# Altium schematic symbol library Weather_Schlib.SchLib: 36 symbols
Pins are listed as number, name and electrical type; pins without a type are passive.

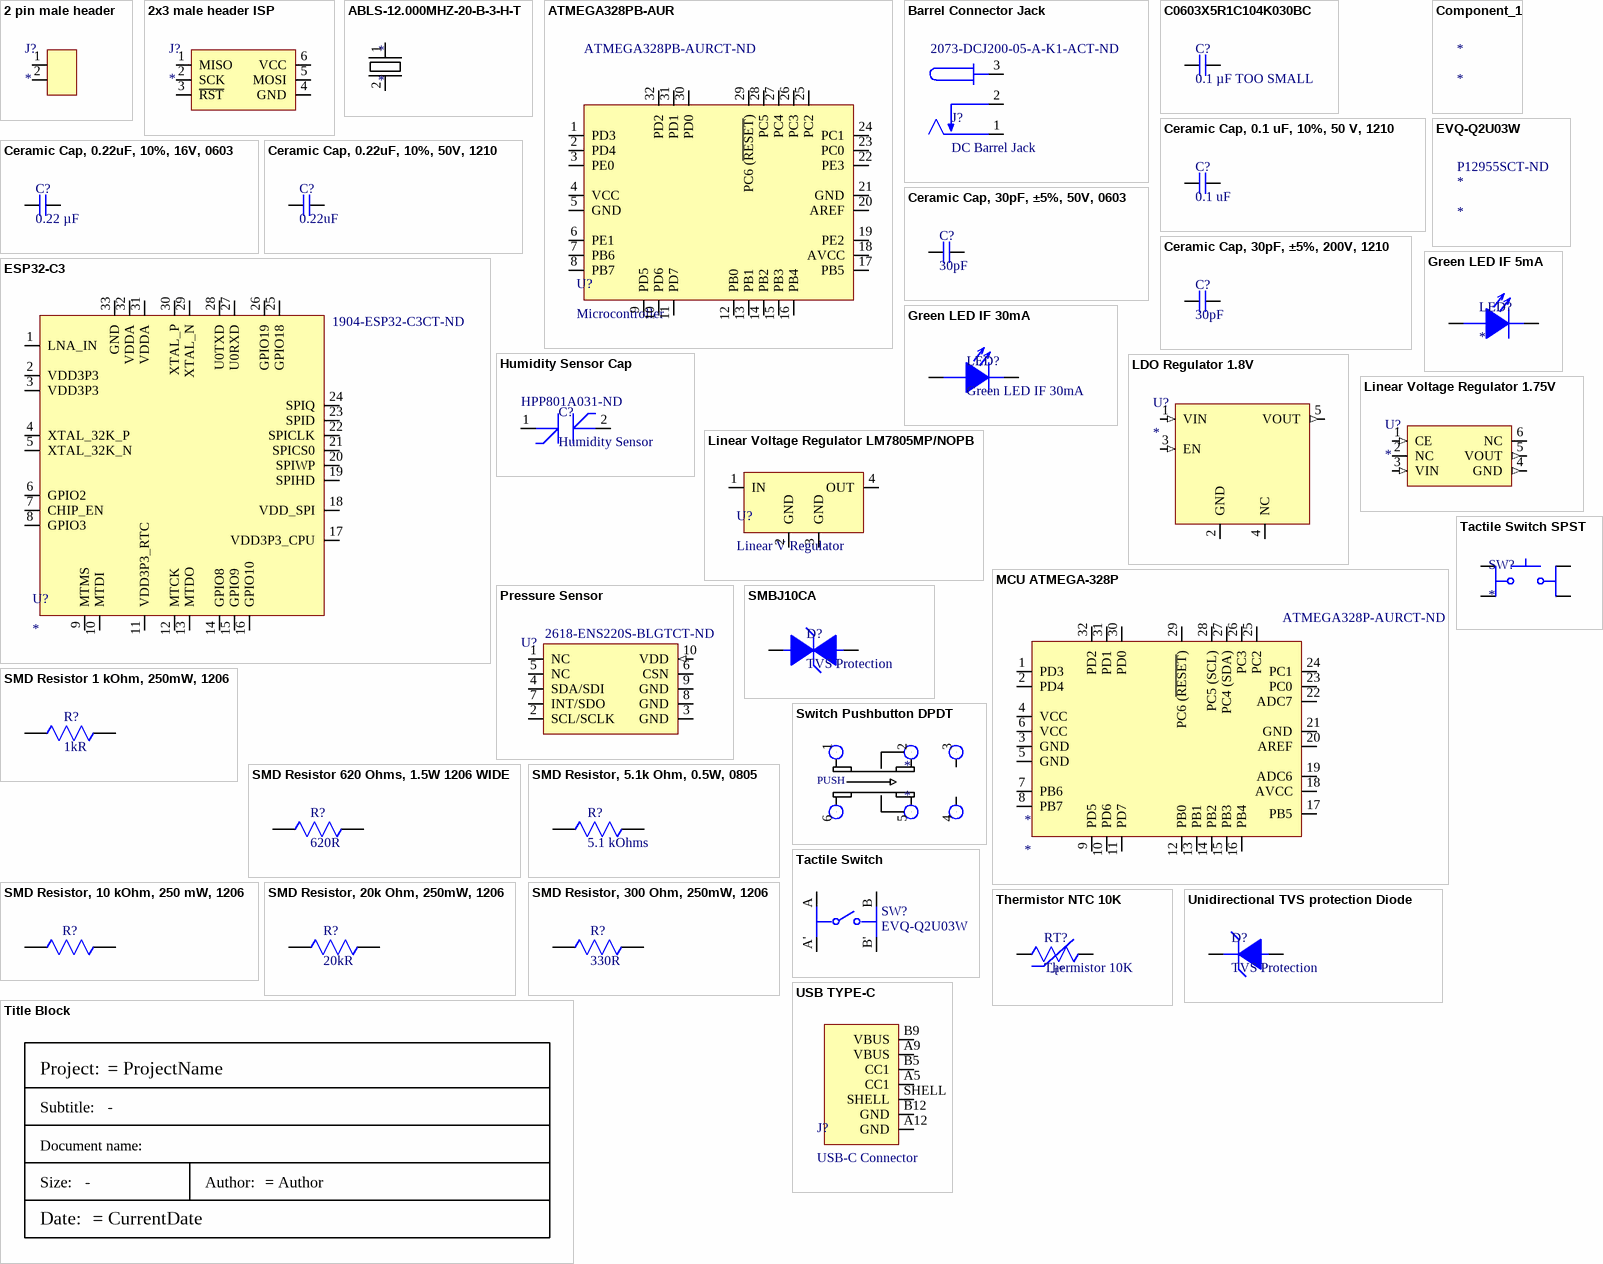
[diagram p0: symbols 2 pin male header to USB TYPE-C]

## 2 pin male header
designator J?
Conn Unshrouded Header HDR 2 POS 2.54mm Solder ST SMD Automotive T/R; Manufacturer: Samtec; Manufacturer Part Number: TSM-102-01-T-SV-TR; Supplier 1: Digikey; RoHS: Yes; Category: Headers and Wire Housings; Stock 1: 4232; Pricing 1: 1=0,22 (USD); ComponentLink1URL: http://www.farnell.com/datasheets/1927672.pdf?src-supplier=Farnell; ComponentLink1Description: http://www.farnell.com/datasheets/1927672.pdf?src-supplier=Farnell; ComponentLink2URL: https://datasheet.octopart.com/TSM-102-01-T-SV-TR-Samtec-datasheet-41643181.pdf?src-supplier=Newark; ComponentLink2Description: https://datasheet.octopart.com/TSM-102-01-T-SV-TR-Samtec-datasheet-41643181.pdf?src-supplier=Newark; ComponentLink3URL: http://suddendocs.samtec.com/catalog_english/tsm.pdf?src-supplier=Digikey; ComponentLink3Description: http://suddendocs.samtec.com/catalog_english/tsm.pdf?src-supplier=Digikey; ComponentLink4URL: http://www.samtec.com/documents/webfiles/pdf/TSM.PDF?src-supplier=Avnet; ComponentLink4Description: http://www.samtec.com/documents/webfiles/pdf/TSM.PDF?src-supplier=Avnet; ComponentLink5URL: https://datasheet.octopart.com/TSM-102-01-T-SV-TR-Samtec-datasheet-97319594.pdf?src-supplier=Sager+Electronics; ComponentLink5Description: https://datasheet.octopart.com/TSM-102-01-T-SV-TR-Samtec-datasheet-97319594.pdf?src-supplier=Sager+Electronics; ComponentLink6URL: https://datasheet.octopart.com/TSM-102-01-T-SV-TR-Samtec-datasheet-116533474.pdf?src-supplier=Toby+Electronics; ComponentLink6Description: https://datasheet.octopart.com/TSM-102-01-T-SV-TR-Samtec-datasheet-116533474.pdf?src-supplier=Toby+Electronics; ComponentLink7URL: https://datasheet.octopart.com/TSM-102-01-T-SV-TR-Samtec-datasheet-141160580.pdf?src-supplier=Master+Electronics; ComponentLink7Description: https://datasheet.octopart.com/TSM-102-01-T-SV-TR-Samtec-datasheet-141160580.pdf?src-supplier=Master+Electronics; Supplier Part Number 1: SAM14779DKR-ND
footprint 2 pin male header smd (SAMTEC_TSM-102-01-X-SV)
pins: 1, 2

## 2x3 male header ISP
designator J?
Bs Dr Vt SMT Hdr 2X3 TR-10125394-T0803ALF | Amphenol Fci (amphenol Cs) 10125394T0803ALF; Manufacturer: Amphenol Communications Solutions; Supplier 1: Digikey; Manufacturer Part Number: 10125394-T0803ALF; RoHS: No; Category: Backplane Connectors; Stock 1: 2253; Pricing 1: 1=0,66, 10=0,5 (USD)
footprint 2x3 male header ISP (AMPHENOL_10125394-T0803ALF)
pins: 1 MISO, 2 SCK, 3 ~{RST}, 4 GND, 5 MOSI, 6 VCC

## ABLS-12.000MHZ-20-B-3-H-T
designator *
Crystal 12MHz ±25ppm (Tol) ±35ppm (Stability) 20pF FUND 50Ohm 2-Pin HC-49/US SMD T/R; Manufacturer: Abracon; Manufacturer Part Number: ABLS-12.000MHZ-20-B-3-H-T; Supplier 1: Digikey; RoHS: Yes; Category: Crystals; Stock 1: 9001; Pricing 1: 1=0,19, 10=0,16, 50=0,1444, 100=0,1381, 500=0,12446 (USD); ComponentLink1URL: https://abracon.com/Resonators/abls.pdf?src-supplier=Digikey; ComponentLink1Description: https://abracon.com/Resonators/abls.pdf?src-supplier=Digikey; ComponentLink2URL: https://datasheet.octopart.com/ABLS-12.000MHZ-20-B-3-H-T-Abracon-datasheet-139816269.pdf?src-supplier=Electro+Sonic; ComponentLink2Description: https://datasheet.octopart.com/ABLS-12.000MHZ-20-B-3-H-T-Abracon-datasheet-139816269.pdf?src-supplier=Electro+Sonic; Supplier Part Number 1: 535-15006-1-ND
footprint ABLS-12.000MHZ-20-B-3-H-T
pins: 1, 2

## ATMEGA328PB-AUR
designator U?, comment Microcontroller  Supplier Part Number 1: ATMEGA328PB-AURCT-ND
AVR AVR® ATmega, Functional Safety (FuSa) Microcontroller IC 8-Bit 20MHz 32KB (16K x 16) FLASH 32-TQFP (7x7); Manufacturer: Microchip; Manufacturer Part Number: ATMEGA328PB-AUR; Number of A/D Converters: 1NUMBER; Number of ADC Channels: 8NUMBER; Number of I2C Channels: 2NUMBER; Number of PWM Channels: 10NUMBER; Supplier 1: Digikey; RoHS: No; Category: Microcontrollers; Stock 1: 14345; Pricing 1: 1=1,7, 25=1,56, 100=1,41 (USD); Number of SPI Channels: 2NUMBER; Number of UART Channels: 2NUMBER; Height: 1.2mm; ComponentLink1URL: http://www.atmel.com/images/atmel-42397-8-bit-avr-microcontroller-atmega328pb_summary.pdf?src-supplier=Avnet; ComponentLink1Description: http://www.atmel.com/images/atmel-42397-8-bit-avr-microcontroller-atmega328pb_summary.pdf?src-supplier=Avnet; ComponentLink2URL: http://www.microchip.com/mymicrochip/filehandler.aspx?ddocname=en589666&src-supplier=Digikey; ComponentLink2Description: http://www.microchip.com/mymicrochip/filehandler.aspx?ddocname=en589666&src-supplier=Digikey; ComponentLink3URL: https://datasheet.octopart.com/ATMEGA328PB-AUR-Microchip-datasheet-154741725.pdf?src-supplier=Electro+Sonic; ComponentLink3Description: https://datasheet.octopart.com/ATMEGA328PB-AUR-Microchip-datasheet-154741725.pdf?src-supplier=Electro+Sonic; ComponentLink4URL: https://datasheet.octopart.com/ATMEGA328PB-AUR-Microchip-datasheet-136376163.pdf?src-supplier=SHENGYU+ELECTRONICS; ComponentLink4Description: https://datasheet.octopart.com/ATMEGA328PB-AUR-Microchip-datasheet-136376163.pdf?src-supplier=SHENGYU+ELECTRONICS
pins: 1 PD3 (power), 2 PD4 (power), 3 PE0, 4 VCC, 5 GND, 6 PE1, 7 PB6, 8 PB7, 9 PD5, 10 PD6, 11 PD7, 12 PB0, 13 PB1, 14 PB2, 15 PB3, 16 PB4, 17 PB5, 18 AVCC, 19 PE2, 20 AREF, 21 GND, 22 PE3, 23 PC0, 24 PC1, 25 PC2, 26 PC3, 27 PC4, 28 PC5, 29 PC6 (~{RESET}), 30 PD0, 31 PD1 (power), 32 PD2 (power)

## Barrel Connector Jack
designator J?, comment DC Barrel Jack  Supplier Part Number 1: 2073-DCJ200-05-A-K1-ACT-ND
Power Barrel Connector Jack 2.05mm ID (0.081"), 5.50mm OD (0.217") Surface Mount, Right Angle; Manufacturer: Global Connector Technology; Manufacturer Part Number: DCJ200-05-A-K1-A; Supplier 1: Digikey; RoHS: Yes; Category: Connectors; Stock 1: 1981; Pricing 1: 1=1,02, 10=0,859, 25=0,8236, 50=0,806, 100=0,771 (USD); ComponentLink1URL: https://datasheet.octopart.com/DCJ200-05-A-K1-A-Global-Connector-Technology-datasheet-77992270.pdf?src-supplier=Future+Electronics; ComponentLink1Description: https://datasheet.octopart.com/DCJ200-05-A-K1-A-Global-Connector-Technology-datasheet-77992270.pdf?src-supplier=Future+Electronics; ComponentLink2URL: https://gct.co/files/drawings/dcj200-05.pdf?src-supplier=Digikey; ComponentLink2Description: https://gct.co/files/drawings/dcj200-05.pdf?src-supplier=Digikey; ComponentLink3URL: https://datasheet.octopart.com/DCJ200-05-A-K1-A-Global-Connector-Technology-datasheet-91940685.pdf?src-supplier=Farnell; ComponentLink3Description: https://datasheet.octopart.com/DCJ200-05-A-K1-A-Global-Connector-Technology-datasheet-91940685.pdf?src-supplier=Farnell; ComponentLink4URL: http://www.farnell.com/cad/1884037.pdf?src-supplier=Element14; ComponentLink4Description: http://www.farnell.com/cad/1884037.pdf?src-supplier=Element14
footprint Power Barrel Jack (GCT_DCJ200-05-A-XX-X_REVA)
pins: 1 GND, 2 SPRING (GND), 3 CENTER (V+) (power)

## C0603X5R1C104K030BC
designator С?, comment 0.1 µF TOO SMALL
TOO SMALL 0.1 µF ±10% 16V Ceramic Capacitor X5R 0201 (0603 Metric); Manufacturer: TDK; Manufacturer Part Number: C0603X5R1C104K030BC; Capacitance: 100nF; Supplier 1: Digikey; RoHS: Yes; Category: Ceramic Capacitors; Stock 1: 3242475; Pricing 1: 1=0,1, 10=0,044, 50=0,0252, 100=0,0195, 500=0,01468, 1000=0,01153, 2500=0,01048, 5000=0,00964 (USD); Mount: Surface Mount; Case/Package: 0201; Case Code (Metric): 0603; Case Code (Imperial): 0201; Weight: 6E-06oz; Dielectric Material: Ceramic; Material: 4241ConductorMaterial; Min Operating Temperature: -55°C; Max Operating Temperature: 85°C; Voltage Rating: 16V; Tolerance: 10%; Packaging: Tape and Reel; Package Quantity: 15000; Dielectric: X5R; Voltage: 16V; Dissipation Factor: 10%; Termination: SMD/SMT; Voltage Rating (DC): 16V; Series: C; Construction: Flat; Length: 0.6mm; Width: 0.3mm; Height: 0.3mm; Depth: 0.3mm; RoHS Compliant: Yes; Reach SVHC Compliant: Unknown; Lead Free: 5697LeadFree; ComponentLink1URL: https://datasheet.ciiva.com/22725/1913358-22725406.pdf?src-supplier=Element14; ComponentLink1Description: https://datasheet.ciiva.com/22725/1913358-22725406.pdf?src-supplier=Element14; ComponentLink2URL: https://datasheet.ciiva.com/22725/1913358-22725407.pdf?src-supplier=Element14; ComponentLink2Description: https://datasheet.ciiva.com/22725/1913358-22725407.pdf?src-supplier=Element14; ComponentLink3URL: https://datasheet.ciiva.com/6250/tdkmlcccaprange-6250616.pdf?src-supplier=Digikey; ComponentLink3Description: https://datasheet.ciiva.com/6250/tdkmlcccaprange-6250616.pdf?src-supplier=Digikey; ComponentLink4URL: https://datasheet.ciiva.com/6250/tdkmlcccaprange-6250614.pdf?src-supplier=Digikey; ComponentLink4Description: https://datasheet.ciiva.com/6250/tdkmlcccaprange-6250614.pdf?src-supplier=Digikey; ComponentLink5URL: https://datasheet.ciiva.com/6250/tdkmlcccaprange-6250618.pdf?src-supplier=Digikey; ComponentLink5Description: https://datasheet.ciiva.com/6250/tdkmlcccaprange-6250618.pdf?src-supplier=Digikey; Supplier Part Number 1: 445-7313-1-ND
footprint C0603X5R1C104K030BC
pins: 1, 2

## Ceramic Cap, 0.1 uF, 10%, 50 V, 1210
designator C?, comment 0.1 uF
CerCapacitor, 0.1 uF, 10%, X7R, 50 V, 1210 [3225 Metric] Rohs Compliant: Yes |Walsin 1210B104K500CT; Manufacturer: Walsin Technologies; Capacitance: 100nF; Voltage Rating: 50V; Supplier 1: Digikey; Manufacturer Part Number: 1210B104K500CT; RoHS: Yes; Category: Ceramic Capacitors; Stock 1: 2921; Pricing 1: 1=0,23, 10=0,133, 50=0,0944, 100=0,0824, 500=0,06194, 1000=0,05558 (USD); Case/Package: Ceramic; Case Code (Metric): 3225; Case Code (Imperial): 1210; Min Operating Temperature: -55°C; Max Operating Temperature: 125°C; Packaging: Tape and Reel; Tolerance: 10%; Dielectric: X7R; Voltage Rating (DC): 50V; Length: 3.2mm; Depth: 2.5mm; Radiation Hardening: No; RoHS Compliant: Yes; Reach SVHC Compliant: Unknown; Lead Free: 5697LeadFree; ComponentLink1URL: https://datasheet.ciiva.com/26864/getdatasheetpartid-414729-26864951.pdf?src-supplier=Verical; ComponentLink1Description: https://datasheet.ciiva.com/26864/getdatasheetpartid-414729-26864951.pdf?src-supplier=Verical; Supplier Part Number 1: 1292-1618-6-ND
footprint 1210B104K500CT
pins: 1, 2

## Ceramic Cap, 0.22uF, 10%, 16V, 0603
designator C?, comment 0.22 µF
Too small 0.22 µF ±10% 16V Ceramic Capacitor X7R 0603 (1608 Metric); Manufacturer: Walsin Technologies; Manufacturer Part Number: 0603B224K160CT; Supplier 1: Digikey; RoHS: Yes; Category: Ceramic Capacitors; Stock 1: 104261; Pricing 1: 1=0,1, 10=0,034, 50=0,0192, 100=0,0149, 500=0,01124, 1000=0,00883 (USD); ComponentLink1URL: http://www.farnell.com/datasheets/2340522.pdf?src-supplier=Farnell; ComponentLink1Description: http://www.farnell.com/datasheets/2340522.pdf?src-supplier=Farnell; ComponentLink2URL: http://www.farnell.com/datasheets/2009679.pdf?src-supplier=Farnell; ComponentLink2Description: http://www.farnell.com/datasheets/2009679.pdf?src-supplier=Farnell; ComponentLink3URL: https://www.verical.com/server-webapp/html/getDatasheet?partID=415742&src-supplier=Verical; ComponentLink3Description: https://www.verical.com/server-webapp/html/getDatasheet?partID=415742&src-supplier=Verical; ComponentLink4URL: http://www.passivecomponent.com/wp-content/uploads/2018/10/MLCC.pdf?src-supplier=Digikey; ComponentLink4Description: http://www.passivecomponent.com/wp-content/uploads/2018/10/MLCC.pdf?src-supplier=Digikey; ComponentLink5URL: https://datasheet.octopart.com/0603B224K160CT-Walsin-Technologies-datasheet-85392065.pdf?src-supplier=Element14; ComponentLink5Description: https://datasheet.octopart.com/0603B224K160CT-Walsin-Technologies-datasheet-85392065.pdf?src-supplier=Element14; ComponentLink6URL: https://datasheet.octopart.com/0603B224K160CT-Walsin-Technologies-datasheet-128065749.pdf?src-supplier=Future+Electronics; ComponentLink6Description: https://datasheet.octopart.com/0603B224K160CT-Walsin-Technologies-datasheet-128065749.pdf?src-supplier=Future+Electronics; ComponentLink7URL: https://datasheet.octopart.com/0603B224K160CT-Walsin-Technologies-datasheet-62066062.pdf?src-supplier=TME; ComponentLink7Description: https://datasheet.octopart.com/0603B224K160CT-Walsin-Technologies-datasheet-62066062.pdf?src-supplier=TME; ComponentLink8URL: https://datasheet.octopart.com/0603B224K160CT-Walsin-Technologies-datasheet-136037192.pdf?src-supplier=TECHDesign; ComponentLink8Description: https://datasheet.octopart.com/0603B224K160CT-Walsin-Technologies-datasheet-136037192.pdf?src-supplier=TECHDesign; Supplier Part Number 1: 1292-1419-1-ND
pins: 1, 2

## Ceramic Cap, 0.22uF, 10%, 50V, 1210
designator C?, comment 0.22uF
Multilayer Ceramic Capacitors MLCC - SMD/SMT 50V 0.22uF X7R 1210 10%; Manufacturer: KEMET; Manufacturer Part Number: C1210C224K5RACTU; Capacitance: 220nF; Supplier 1: Digikey; RoHS: Yes; Category: Ceramic Capacitors; Stock 1: 44512; Pricing 1: 1=0,26, 10=0,169, 50=0,1242, 100=0,1012, 500=0,07988, 1000=0,06745 (USD); Mount: Surface Mount,PCB; Case/Package: 1210; Number of Pins: 2; Case Code (Imperial): 1210; Case Code (Metric): 3225; Dielectric Material: Ceramic; Min Operating Temperature: -55°C; Max Operating Temperature: 125°C; Package Quantity: 1; Voltage Rating: 50V; Voltage Rating (DC): 50V; Tolerance: 10%; Packaging: Tape and Reel; Dielectric: X7R; Termination: SMD/SMT; Voltage: 50V; Series: C; Construction: Flat; Length: 3.2mm; Width: 0.098inch; Height: 0.9mm; Thickness: 0.039inch; Depth: 2.5mm; Radiation Hardening: No; Reach SVHC Compliant: No; RoHS Compliant: Yes; Lead Free: 5697LeadFree; ComponentLink1URL: https://datasheet.ciiva.com/5969/kem-c1002-x7r-smd-5969839.pdf?src-supplier=Farnell; ComponentLink1Description: https://datasheet.ciiva.com/5969/kem-c1002-x7r-smd-5969839.pdf?src-supplier=Farnell; ComponentLink2URL: https://datasheet.ciiva.com/7807/kem-c1002-x7r-smd-7807526.pdf?src-supplier=Element14; ComponentLink2Description: https://datasheet.ciiva.com/7807/kem-c1002-x7r-smd-7807526.pdf?src-supplier=Element14; ComponentLink3URL: https://datasheet.ciiva.com/28682/1851736-28682447.pdf?src-supplier=Element14; ComponentLink3Description: https://datasheet.ciiva.com/28682/1851736-28682447.pdf?src-supplier=Element14; Supplier Part Number 1: 399-C1210C224K5RAC7800DKR-ND
footprint Ceramic Cap 0.22uF 1210 Low density (CAPC340270_100N_KEM-M)
pins: 1, 2

## Ceramic Cap, 30pF, ±5%, 50V, 0603
designator C?, comment 30pF
0603 30 pF 50 V ±5% Tolerance C0G/NP0 Surface Mount Multilayer Ceramic Capacitor; Manufacturer: Kyocera AVX; Manufacturer Part Number: 06035A300JAT2A; Supplier 1: Digikey; RoHS: Yes; Category: Ceramic Capacitors; Stock 1: 81145; Pricing 1: 1=0,1, 10=0,048, 50=0,0328, 100=0,0282, 500=0,02032, 1000=0,01788 (USD); ComponentLink1URL: https://datasheet.ciiva.com/11537/ccog-11537802.pdf?src-supplier=Avnet; ComponentLink1Description: https://datasheet.ciiva.com/11537/ccog-11537802.pdf?src-supplier=Avnet; ComponentLink2URL: https://datasheet.ciiva.com/203/ccog-203948.pdf?src-supplier=Digikey; ComponentLink2Description: https://datasheet.ciiva.com/203/ccog-203948.pdf?src-supplier=Digikey; ComponentLink3URL: https://datasheet.ciiva.com/14906/ccog-14906342.pdf?src-supplier=Digikey; ComponentLink3Description: https://datasheet.ciiva.com/14906/ccog-14906342.pdf?src-supplier=Digikey; ComponentLink4URL: https://datasheet.ciiva.com/14906/ccog-14906343.pdf?src-supplier=Digikey; ComponentLink4Description: https://datasheet.ciiva.com/14906/ccog-14906343.pdf?src-supplier=Digikey; ComponentLink5URL: https://datasheet.ciiva.com/7614/ccog-7614633.pdf?src-supplier=Digikey; ComponentLink5Description: https://datasheet.ciiva.com/7614/ccog-7614633.pdf?src-supplier=Digikey; ComponentLink6URL: https://datasheet.ciiva.com/16218/ccog-16218887.pdf?src-supplier=Future+Electronics; ComponentLink6Description: https://datasheet.ciiva.com/16218/ccog-16218887.pdf?src-supplier=Future+Electronics; Supplier Part Number 1: 478-7917-1-ND
pins: 1, 2

## Ceramic Cap, 30pF, ±5%, 200V, 1210
designator C?, comment 30pF
30 pF ±5% 200V Ceramic Capacitor C0G, NP0 1210 (3225 Metric); Manufacturer: Kyocera AVX; Manufacturer Part Number: KGQ32DCG2D300JT; Supplier 1: Digikey; RoHS: No; Stock 1: 5835; Pricing 1: 1=0,65, 10=0,39, 50=0,2872, 100=0,2553, 500=0,20086, 1000=0,18387 (USD); Supplier Part Number 1: 478-KGQ32DCG2D300JTCT-ND
footprint Kyocera 1210 Ceramic Capacitor
pins: 1, 2

## Component_1
designator *

## ESP32-C3
designator U?  Supplier Part Number 1: 1904-ESP32-C3CT-ND
Bluetooth, WiFi 802.11b/g/n, Bluetooth v5.0 Transceiver Module 2.402GHz ~ 2.48GHz Antenna Not Included Surface Mount; Manufacturer: Espressif Systems; Manufacturer Part Number: ESP32-C3; Supplier 1: Digikey; RoHS: Yes; Category: LDO; Stock 1: 8973; Pricing 1: 1=1 (USD)
pins: 1 LNA_IN, 2 VDD3P3, 3 VDD3P3, 4 XTAL_32K_P, 5 XTAL_32K_N, 6 GPIO2, 7 CHIP_EN, 8 GPIO3, 9 MTMS, 10 MTDI, 11 VDD3P3_RTC, 12 MTCK, 13 MTDO, 14 GPIO8, 15 GPIO9, 16 GPIO10, 17 VDD3P3_CPU, 18 VDD_SPI, 19 SPIHD, 20 SPIWP, 21 SPICS0, 22 SPICLK, 23 SPID, 24 SPIQ, 25 GPIO18, 26 GPIO19, 27 U0RXD, 28 U0TXD, 29 XTAL_N, 30 XTAL_P, 31 VDDA, 32 VDDA, 33 GND

## EVQ-Q2U03W
designator *  Supplier Part Number 1: P12955SCT-ND
Switch Tactile ON OFF SPST Round Button J-Bend 0.02A 15VDC 2.6N SMD Embossed T/R; Manufacturer: Panasonic; Manufacturer Part Number: EVQ-Q2U03W; Supplier 1: Digikey; RoHS: Yes; Category: Tactile Switches; Stock 1: 75845; Pricing 1: 1=0,19, 10=0,186, 25=0,176, 100=0,1594, 250=0,14532, 500=0,13506, 1000=0,11522 (USD); ComponentLink1URL: https://datasheet.ciiva.com/25603/0900766b810ad3e5-25603904.pdf?src-supplier=Rs; ComponentLink1Description: https://datasheet.ciiva.com/25603/0900766b810ad3e5-25603904.pdf?src-supplier=Rs; ComponentLink2URL: https://datasheet.ciiva.com/2899/atk0000ce28-2899560.pdf?src-supplier=Digikey; ComponentLink2Description: https://datasheet.ciiva.com/2899/atk0000ce28-2899560.pdf?src-supplier=Digikey; ComponentLink3URL: https://datasheet.ciiva.com/2899/atk0000ce28-2899561.pdf?src-supplier=Digikey; ComponentLink3Description: https://datasheet.ciiva.com/2899/atk0000ce28-2899561.pdf?src-supplier=Digikey; ComponentLink4URL: https://datasheet.ciiva.com/2899/atk0000ce28-2899562.pdf?src-supplier=Digikey; ComponentLink4Description: https://datasheet.ciiva.com/2899/atk0000ce28-2899562.pdf?src-supplier=Digikey; ComponentLink5URL: https://datasheet.ciiva.com/8165/atk0000ce28-8165166.pdf?src-supplier=Avnet; ComponentLink5Description: https://datasheet.ciiva.com/8165/atk0000ce28-8165166.pdf?src-supplier=Avnet; ComponentLink6URL: https://datasheet.ciiva.com/16438/atk0000ce28-16438077.pdf?src-supplier=Future+Electronics; ComponentLink6Description: https://datasheet.ciiva.com/16438/atk0000ce28-16438077.pdf?src-supplier=Future+Electronics; ComponentLink7URL: https://datasheet.ciiva.com/46401/28111-46401279.pdf?src-supplier=Element14; ComponentLink7Description: https://datasheet.ciiva.com/46401/28111-46401279.pdf?src-supplier=Element14

## Green LED IF 5mA
designator LED?
Side View / 0805 / 2.1 X 1.0 X 0; Manufacturer: Inolux; Manufacturer Part Number: IN-S85CS5G; Supplier 1: Digikey; RoHS: No; Category: LEDs; Stock 1: 4626; Pricing 1: 1=0,25, 10=0,166, 100=0,1109, 500=0,07668, 1000=0,0639 (USD); Supplier Part Number 1: 1830-IN-S85CS5GDKR-ND
footprint SMD LED (LED_IN-S85_INL)
pins: 1, 2

## Green LED IF 30mA
designator LED?
Green 569nm LED Indication - Discrete 2.1V 0603 (1608 Metric); Manufacturer: Vishay Lite-On; Manufacturer Part Number: LTST-C190GKT; Lens Color: Colorless; Luminous Intensity: 6mcd; Viewing Angle: 130°; Lens Style: Flat,Diffused,Colorless,Rectangular,Clear; Power Rating: 100mW; Test Current: 10mA; Lens Transparency: Clear; Number of Elements: 1; Wavelength: 565nm; Voltage: 2V; Reverse Voltage: 5V; Lens Size: 0.8mm; Supplier 1: Digikey; RoHS: Yes; Category: LEDs; Stock 1: 1442907; Pricing 1: 1=0,24, 10=0,133, 100=0,0617, 500=0,05696, 1000=0,04462, 2000=0,04367 (USD); Mount: Surface Mount; Case/Package: 0603; Number of Pins: 2; Color: Green; Case Code (Metric): 1608; Case Code (Imperial): 0603; Min Operating Temperature: -55°C; Max Operating Temperature: 85°C; Forward Voltage: 2.1V; Package Quantity: 1; Packaging: Tape and Reel; Forward Current: 30mA; Illumination Color: Green; Dominant Wavelength: 569nm; Power Dissipation: 100mW; Number of LEDs: 1; Series: -; Length: 1.6mm; Width: 0.8mm; Height: 0.9mm; Depth: 0.8mm; Radiation Hardening: No; Lead Free: Lead Free; RoHS Compliant: Yes; ComponentLink1URL: https://datasheet.ciiva.com/2109/ltst-c190gkt-2109985.pdf?src-supplier=Digikey; ComponentLink1Description: https://datasheet.ciiva.com/2109/ltst-c190gkt-2109985.pdf?src-supplier=Digikey; ComponentLink2URL: https://datasheet.ciiva.com/11775/0900766b80dc02a6-11775616.pdf?src-supplier=Rs; ComponentLink2Description: https://datasheet.ciiva.com/11775/0900766b80dc02a6-11775616.pdf?src-supplier=Rs; ComponentLink3URL: https://datasheet.ciiva.com/12403/lite-on-ltst-c190gkt-187204-12403884.pdf?src-supplier=Mouser; ComponentLink3Description: https://datasheet.ciiva.com/12403/lite-on-ltst-c190gkt-187204-12403884.pdf?src-supplier=Mouser; ComponentLink4URL: https://datasheet.ciiva.com/16392/lite-on20ltst-c190gkt-16392818.pdf?src-supplier=Future+Electronics; ComponentLink4Description: https://datasheet.ciiva.com/16392/lite-on20ltst-c190gkt-16392818.pdf?src-supplier=Future+Electronics; ComponentLink5URL: https://datasheet.ciiva.com/2109/ltst-c190gkt-2109986.pdf?src-supplier=Digikey; ComponentLink5Description: https://datasheet.ciiva.com/2109/ltst-c190gkt-2109986.pdf?src-supplier=Digikey; ComponentLink6URL: https://datasheet.ciiva.com/2109/ltst-c190gkt-2109987.pdf?src-supplier=Digikey; ComponentLink6Description: https://datasheet.ciiva.com/2109/ltst-c190gkt-2109987.pdf?src-supplier=Digikey; Supplier Part Number 1: 160-1183-1-ND
pins: 1, 2

## Humidity Sensor Cap
designator C?, comment Humidity Sensor  Supplier Part Number 1: HPP801A031-ND
Humidity 1 ~ 99% RH Capacitance ±2% RH 3 s Through Hole; Manufacturer: TE Connectivity; Manufacturer Part Number: HPP801A031; Capacitance: 180pF; Supplier 1: Digikey; RoHS: No; Category: Temperature and Humidity Sensors; Stock 1: 2797; Pricing 1: 1=8,53, 10=6,828, 48=6,31563, 96=5,46208, 528=5,1207, 1008=4,77932 (USD); Case/Package: 72Case; ComponentLink1URL: http://uk.rs-online.com/webdocs/142c/0900766b8142cdcd.pdf?src-supplier=Rs; ComponentLink1Description: http://uk.rs-online.com/webdocs/142c/0900766b8142cdcd.pdf?src-supplier=Rs; ComponentLink2URL: http://www.farnell.com/datasheets/2305691.pdf?src-supplier=Farnell; ComponentLink2Description: http://www.farnell.com/datasheets/2305691.pdf?src-supplier=Farnell; ComponentLink3URL: https://www.te.com/commerce/DocumentDelivery/DDEController?Action=srchrtrv&DocNm=HPC052&DocType=DS&DocLang=English&src-supplier=Digikey; ComponentLink3Description: https://www.te.com/commerce/DocumentDelivery/DDEController?Action=srchrtrv&DocNm=HPC052&DocType=DS&DocLang=English&src-supplier=Digikey; ComponentLink4URL: https://datasheet.octopart.com/HPP801A031-TE-Connectivity-datasheet-86575277.pdf?src-supplier=Farnell; ComponentLink4Description: https://datasheet.octopart.com/HPP801A031-TE-Connectivity-datasheet-86575277.pdf?src-supplier=Farnell; ComponentLink5URL: https://datasheet.octopart.com/HPP801A031-TE-Connectivity-datasheet-21069934.pdf?src-supplier=Future+Electronics; ComponentLink5Description: https://datasheet.octopart.com/HPP801A031-TE-Connectivity-datasheet-21069934.pdf?src-supplier=Future+Electronics; ComponentLink6URL: https://datasheet.octopart.com/HPP801A031-TE-Connectivity-datasheet-65793078.pdf?src-supplier=Sager+Electronics; ComponentLink6Description: https://datasheet.octopart.com/HPP801A031-TE-Connectivity-datasheet-65793078.pdf?src-supplier=Sager+Electronics
pins: 1, 2

## LDO Regulator 1.8V
designator U?
Linear Voltage Regulator IC Positive Fixed 1 Output 1.8V 300mA SOT-23-5; Manufacturer: Microchip; Manufacturer Part Number: MIC5504-1.8YM5-TR; Supplier 1: Digikey; RoHS: Yes; Category: Voltage Regulators - Linear; Stock 1: 215403; Pricing 1: 1=0,16, 25=0,12, 100=0,11 (USD); ComponentLink1URL: http://www.microchip.com/mymicrochip/filehandler.aspx?ddocname=en580292&src-supplier=Digikey; ComponentLink1Description: http://www.microchip.com/mymicrochip/filehandler.aspx?ddocname=en580292&src-supplier=Digikey; ComponentLink2URL: http://ww1.microchip.com/downloads/en/DeviceDoc/MIC550X.pdf?src-supplier=Farnell; ComponentLink2Description: http://ww1.microchip.com/downloads/en/DeviceDoc/MIC550X.pdf?src-supplier=Farnell; ComponentLink3URL: https://datasheet.octopart.com/MIC5504-1.8YM5-TR-Microchip-datasheet-137404938.pdf?src-supplier=Future+Electronics; ComponentLink3Description: https://datasheet.octopart.com/MIC5504-1.8YM5-TR-Microchip-datasheet-137404938.pdf?src-supplier=Future+Electronics; ComponentLink4URL: http://ww1.microchip.com/downloads/en/DeviceDoc/MIC550X.pdf?src-supplier=Newark; ComponentLink4Description: http://ww1.microchip.com/downloads/en/DeviceDoc/MIC550X.pdf?src-supplier=Newark; ComponentLink5URL: https://datasheet.octopart.com/MIC5504-1.8YM5-TR-Microchip-datasheet-137404938.pdf?src-supplier=Electro+Sonic; ComponentLink5Description: https://datasheet.octopart.com/MIC5504-1.8YM5-TR-Microchip-datasheet-137404938.pdf?src-supplier=Electro+Sonic; Supplier Part Number 1: 576-4879-6-ND
footprint LDO 1.8V (SOT23-5P95_280X145XL45X37N)
pins: 1 VIN (in), 2 GND, 3 EN (in), 4 NC, 5 VOUT (out)

## Linear Voltage Regulator 1.75V
designator U?
XC6210A17AMR-G; Manufacturer: Torex; Supplier 1: Digikey; Manufacturer Part Number: XC6210A17AMR-G; RoHS: No; Stock 1: 100; Pricing 1: 1=0,81, 10=0,71, 25=0,6668, 100=0,5443, 250=0,50556, 500=0,43026, 1000=0,34421 (USD); Supplier Part Number 1: 893-XC6210A17AMR-GCT-ND
footprint SOT-25_TOR
pins: 1 CE (in), 2 NC, 3 VIN (in), 4 GND (out), 5 VOUT (out), 6 NC

## Linear Voltage Regulator LM7805MP/NOPB
designator U?, comment Linear V Regulator
1.5-A, 30-V, linear voltage regulator 4-SOT-223 0 to 125; Manufacturer: Texas Instruments; Manufacturer Part Number: LM7805MP/NOPB; Dropout Voltage: 2V; Accuracy: 3%; Max Supply Voltage: 30V; Min Supply Voltage: 7.5V; Nominal Supply Current: 8mA; Number of Outputs: 1NUMBER; Output Voltage: 5V; Supplier 1: Digikey; RoHS: Yes; Category: Voltage Regulators - Linear; Stock 1: 2585; Pricing 1: 1=1,73, 10=1,555, 25=1,4672, 100=1,2499, 250=1,1736, 500=1,02692 (USD); Number of Pins: 4NUMBER; Length: 6.5mm; Width: 3.5mm; Height: 1.8mm; Thickness: 1.6mm; Lead Free: 5698LeadFree; ComponentLink1URL: http://www.ti.com/general/docs/suppproductinfo.tsp?distId=10&amp;gotoUrl=http%3A%2F%2Fwww.ti.com%2Flit%2Fgpn%2Flm340&src-supplier=Digikey; ComponentLink1Description: http://www.ti.com/general/docs/suppproductinfo.tsp?distId=10&amp;gotoUrl=http%3A%2F%2Fwww.ti.com%2Flit%2Fgpn%2Flm340&src-supplier=Digikey; Supplier Part Number 1: 296-44517-1-ND
footprint LM7805MP/NOPB (Linear Voltage Regulator LM7805)
pins: 1 IN, 2 GND, 3 GND, 4 OUT

## MCU ATMEGA-328P
designator *  Supplier Part Number 1: ATMEGA328P-AURCT-ND
AVR series Microcontroller IC 8-Bit 2MHz 32KB (16K x 16) FLASH 32-TQFP (7x7); Manufacturer: Microchip; Manufacturer Part Number: ATMEGA328P-AUR; Interface: I2C,SPI,UART,USART; Oscillator Type: Internal; Peripherals: Brown-out Detect/Reset,POR,PWM,WDT; Number of I/Os: 23; Core Architecture: PIC; Data Bus Width: 8b; Max Frequency: 20MHz; Max Supply Voltage: 5.5V; Min Supply Voltage: 1.8V; Number of ADC Channels: 8NUMBER; Number of I2C Channels: 1NUMBER; Number of Programmable I/O: 23NUMBER; Number of PWM Channels: 6NUMBER; Number of SPI Channels: 2NUMBER; Number of Timers/Counters: 3NUMBER; RAM Size: 2KB; Watchdog Timer: 5512WatchdogTimer; Supplier 1: Digikey; RoHS: Yes; Category: Microcontrollers; Stock 1: 111026; Pricing 1: 1=2,74, 25=2,54, 100=2,3 (USD); Mount: Surface Mount; Case/Package: TQFP; Number of Pins: 32; Contact Plating: 154ConductorMaterial; Min Operating Temperature: -40°C; Max Operating Temperature: 85°C; Packaging: Cut Tape; Memory Type: FLASH; Memory Size: 32KB; Series: PIC® 18F; Number of UART Channels: 1NUMBER; Height: 1.2mm; RoHS Compliant: Yes; Lead Free: 5697LeadFree; Reach SVHC Compliant: 4186SVHC; ComponentLink1URL: http://www.farnell.com/datasheets/2047852.pdf?src-supplier=Farnell; ComponentLink1Description: http://www.farnell.com/datasheets/2047852.pdf?src-supplier=Farnell; ComponentLink2URL: http://components.arrow.com/part/dataview/48719204S8832641N3744?src-supplier=Arrow+Electronics; ComponentLink2Description: http://components.arrow.com/part/dataview/48719204S8832641N3744?src-supplier=Arrow+Electronics; ComponentLink3URL: http://www.produktinfo.conrad.com/datenblaetter/1200000-1299999/001267077-da-01-en-IC_MCU_8BIT_3_ATMEGA328P_AUR_TQFP_32_ATM.pdf?src-supplier=Conrad; ComponentLink3Description: http://www.produktinfo.conrad.com/datenblaetter/1200000-1299999/001267077-da-01-en-IC_MCU_8BIT_3_ATMEGA328P_AUR_TQFP_32_ATM.pdf?src-supplier=Conrad; ComponentLink4URL: https://datasheet.octopart.com/ATMEGA328P-AUR-Microchip-datasheet-14421303.pdf?src-supplier=Newark; ComponentLink4Description: https://datasheet.octopart.com/ATMEGA328P-AUR-Microchip-datasheet-14421303.pdf?src-supplier=Newark; ComponentLink5URL: http://www.farnell.com/datasheets/2047852.pdf?src-supplier=Element14; ComponentLink5Description: http://www.farnell.com/datasheets/2047852.pdf?src-supplier=Element14; ComponentLink6URL: https://datasheet.octopart.com/ATMEGA328P-AUR-Microchip-datasheet-101746195.pdf?src-supplier=Future+Electronics; ComponentLink6Description: https://datasheet.octopart.com/ATMEGA328P-AUR-Microchip-datasheet-101746195.pdf?src-supplier=Future+Electronics; ComponentLink7URL: http://www.farnell.com/datasheets/1693866.pdf?src-supplier=Newark; ComponentLink7Description: http://www.farnell.com/datasheets/1693866.pdf?src-supplier=Newark; ComponentLink8URL: http://www.microchip.com/mymicrochip/filehandler.aspx?ddocname=en589968&src-supplier=Digikey; ComponentLink8Description: http://www.microchip.com/mymicrochip/filehandler.aspx?ddocname=en589968&src-supplier=Digikey; ComponentLink9URL: http://www.microchip.com/mymicrochip/filehandler.aspx?ddocname=en608326&src-supplier=Digikey; ComponentLink9Description: http://www.microchip.com/mymicrochip/filehandler.aspx?ddocname=en608326&src-supplier=Digikey; ComponentLink10URL: https://datasheet.octopart.com/ATMEGA328P-AUR-Microchip-datasheet-133520744.pdf?src-supplier=LKR; ComponentLink10Description: https://datasheet.octopart.com/ATMEGA328P-AUR-Microchip-datasheet-133520744.pdf?src-supplier=LKR; ComponentLink11URL: https://datasheet.octopart.com/ATMEGA328P-AUR-Microchip-datasheet-154741723.pdf?src-supplier=Electro+Sonic; ComponentLink11Description: https://datasheet.octopart.com/ATMEGA328P-AUR-Microchip-datasheet-154741723.pdf?src-supplier=Electro+Sonic; ComponentLink12URL: https://datasheet.octopart.com/ATMEGA328P-AUR-Microchip-datasheet-68295846.pdf?src-supplier=SHENGYU+ELECTRONICS; ComponentLink12Description: https://datasheet.octopart.com/ATMEGA328P-AUR-Microchip-datasheet-68295846.pdf?src-supplier=SHENGYU+ELECTRONICS
footprint QFP80P900X900X120-32N
pins: 1 PD3 (power), 2 PD4 (power), 3 GND, 4 VCC, 5 GND, 6 VCC, 7 PB6, 8 PB7, 9 PD5, 10 PD6, 11 PD7, 12 PB0, 13 PB1, 14 PB2, 15 PB3, 16 PB4, 17 PB5, 18 AVCC, 19 ADC6, 20 AREF, 21 GND, 22 ADC7, 23 PC0, 24 PC1, 25 PC2, 26 PC3, 27 PC4 (SDA), 28 PC5 (SCL), 29 PC6 (~{RESET}), 30 PD0, 31 PD1 (power), 32 PD2 (power)

## Pressure Sensor
designator U?  Supplier Part Number 1: 2618-ENS220S-BLGTCT-ND  (hidden comment: Pressure Sensor)
Pressure Sensor 4.35PSI ~ 17.4PSI (30kPa ~ 120kPa) Absolute 24 b 10-LGA; Manufacturer: ScioSense; Manufacturer Part Number: ENS220S-BLGT; Supplier 1: Digikey; RoHS: No; Stock 1: 2645; Pricing 1: 1=3,45, 10=2,591, 25=2,3028, 50=2,1876, 100=2,1301, 500=1,78468, 1000=1,66953 (USD)
footprint XDCR_ENS220S-BLGT
pins: 1 NC, 2 SCL/SCLK, 3 GND, 4 SDA/SDI, 5 NC, 6 CSN, 7 INT/SDO, 8 GND, 9 GND, 10 VDD (in)

## SMBJ10CA
designator D?, comment TVS Protection
Bidirectional TVS protection. SMBJ Series 5 W 12.3 V Bi-Directional Surface Mount TVS Diode - SMB; Manufacturer: Littelfuse; Manufacturer Part Number: SMBJ10CA; Max Reverse Leakage Current: 5uA; Reverse Voltage: 10V; Supplier 1: Digikey; RoHS: Yes; Category: TVS Diodes; Stock 1: 48414; Pricing 1: 1=0,48, 10=0,339, 100=0,171, 500=0,15152, 1000=0,11791 (USD); ComponentLink1URL: https://datasheet.ciiva.com/34302/1546582-34302456.pdf?src-supplier=Jameco; ComponentLink1Description: https://datasheet.ciiva.com/34302/1546582-34302456.pdf?src-supplier=Jameco; ComponentLink2URL: https://datasheet.ciiva.com/331/littelfuse-tvs-diode-smbj-datasheet-pdf-331637.pdf?src-supplier=Digikey; ComponentLink2Description: https://datasheet.ciiva.com/331/littelfuse-tvs-diode-smbj-datasheet-pdf-331637.pdf?src-supplier=Digikey; ComponentLink3URL: https://datasheet.ciiva.com/331/littelfuse-tvs-diode-smbj-datasheet-pdf-331638.pdf?src-supplier=Digikey; ComponentLink3Description: https://datasheet.ciiva.com/331/littelfuse-tvs-diode-smbj-datasheet-pdf-331638.pdf?src-supplier=Digikey; ComponentLink4URL: https://datasheet.ciiva.com/331/littelfuse-tvs-diode-smbj-datasheet-pdf-331639.pdf?src-supplier=Digikey; ComponentLink4Description: https://datasheet.ciiva.com/331/littelfuse-tvs-diode-smbj-datasheet-pdf-331639.pdf?src-supplier=Digikey; ComponentLink5URL: https://datasheet.ciiva.com/5771/littelfuse-tvs-diode-smbj-5771034.pdf?src-supplier=Farnell; ComponentLink5Description: https://datasheet.ciiva.com/5771/littelfuse-tvs-diode-smbj-5771034.pdf?src-supplier=Farnell; ComponentLink6URL: https://datasheet.ciiva.com/8062/littelfuse-tvs-diode-smbj-8062294.pdf?src-supplier=Element14; ComponentLink6Description: https://datasheet.ciiva.com/8062/littelfuse-tvs-diode-smbj-8062294.pdf?src-supplier=Element14; ComponentLink7URL: https://datasheet.ciiva.com/8062/13057-8062510.pdf?src-supplier=Element14; ComponentLink7Description: https://datasheet.ciiva.com/8062/13057-8062510.pdf?src-supplier=Element14; ComponentLink8URL: https://datasheet.ciiva.com/16381/littelfuse-tvs-diode-smbj-16381643.pdf?src-supplier=Future+Electronics; ComponentLink8Description: https://datasheet.ciiva.com/16381/littelfuse-tvs-diode-smbj-16381643.pdf?src-supplier=Future+Electronics; Supplier Part Number 1: SMBJ10CALFCT-ND
pins: 1, 2

## SMD Resistor 1 kOhm, 250mW, 1206
designator R?, comment 1kR
SMD Chip Resistor, 1 kOhm, ± 1%, 250 mW, 1206 [3216 Metric], Thick Film, General Purpose; Manufacturer: Yageo; Manufacturer Part Number: RC1206FR-071KL; Temperature Coefficient: 100ppm/°C; Power Rating: 250mW; Voltage Rating: 200V; Supplier 1: Digikey; RoHS: Yes; Category: Chip SMD Resistors; Stock 1: 367793; Pricing 1: 1=0,1, 10=0,038, 50=0,0244, 100=0,0206, 500=0,01434, 1000=0,01248 (USD); Case/Package: 1206; Case Code (Imperial): 1206; Case Code (Metric): 3216; Size Code: 1206; Min Operating Temperature: -55°C; Max Operating Temperature: 155°C; Resistance: 1kR; Tolerance: 1%; Packaging: Tape and Reel; Resistor Type: Thick Film; Termination: SMD/SMT; Series: RC; Resistance Tolerance: 1%; Voltage Rating (AC): 200V; Technology: THICK FILM; Length: 3.1mm; Height: 0.55mm; Depth: 1.6mm; Lead Free: Lead Free; Reach SVHC Compliant: Unknown; RoHS Compliant: Yes; Supplier Part Number 1: 311-1.00KFRDKR-ND
footprint Yageo 1206 SMD Resistor (RC1206FR-0720KL)
pins: 1, 2

## SMD Resistor 620 Ohms, 1.5W 1206 WIDE
designator R?, comment 620R
620 Ohms ±1% 1.5W Chip Resistor Wide 1206 (3216 Metric), 0612 Automotive AEC-Q200, Pulse Withstanding Thick Film; Manufacturer: Rohm; Manufacturer Part Number: LTR18EZPF6200; Max Power Dissipation: 750mW; Temperature Coefficient: 100ppm/°C; Voltage Rating: 200V; Supplier 1: Digikey; RoHS: No; Category: Chip SMD Resistors; Stock 1: 8335; Pricing 1: 1=0,2, 10=0,107, 50=0,073, 100=0,0629, 500=0,04618, 1000=0,0409 (USD); Case/Package: 0612; Case Code (Metric): 3216; Case Code (Imperial): 1206; Min Operating Temperature: -55°C; Max Operating Temperature: 155°C; Resistance: 620R; Tolerance: 1%; Packaging: Cut Tape; Number of Terminations: 2; Features: Automotive AEC-Q200; Series: LTR; Ratings: AEC-Q200; RoHS Compliant: No; ComponentLink1URL: https://datasheet.ciiva.com/2470/ltr-2470303.pdf?src-supplier=Digikey; ComponentLink1Description: https://datasheet.ciiva.com/2470/ltr-2470303.pdf?src-supplier=Digikey; ComponentLink2URL: https://datasheet.ciiva.com/2470/ltr-2470304.pdf?src-supplier=Digikey; ComponentLink2Description: https://datasheet.ciiva.com/2470/ltr-2470304.pdf?src-supplier=Digikey; ComponentLink3URL: https://datasheet.ciiva.com/2470/ltr-2470305.pdf?src-supplier=Digikey; ComponentLink3Description: https://datasheet.ciiva.com/2470/ltr-2470305.pdf?src-supplier=Digikey; Supplier Part Number 1: RHM620YCT-ND
footprint 1206 WIDE SMD Resistor (RESC1632X65N)
pins: 1, 2

## SMD Resistor, 5.1k Ohm, 0.5W, 0805
designator R?, comment 5.1 kOhms
5.1 kOhms ±5% 0.5W, 1/2W Chip Resistor 0805 (2012 Metric) Automotive AEC-Q200, Pulse Withstanding Thick Film; Manufacturer: Vishay; Manufacturer Part Number: RCS08055K10JNEA; Max Power Dissipation: 400mW; Temperature Coefficient: 200ppm/°C; Supplier 1: Digikey; Category: Chip SMD Resistors; Stock 1: 2298; Pricing 1: 1=0,13, 10=0,066, 50=0,0444, 100=0,0379, 500=0,02716, 1000=0,0239 (USD); Case/Package: 0805; Min Operating Temperature: -55°C; Max Operating Temperature: 155°C; Package Quantity: 5000; Packaging: Tape and Reel; Number of Terminations: 2; Tolerance: 5%; Features: Automotive AEC-Q200; Series: RCS; Length: 0.079inch; Width: 0.049inch; Height: 0.02inch; RoHS Compliant: Yes; ComponentLink1URL: http://www.vishay.com/docs/20065/rcse3.pdf?src-supplier=Digikey; ComponentLink1Description: http://www.vishay.com/docs/20065/rcse3.pdf?src-supplier=Digikey; Supplier Part Number 1: 541-RCS08055K10JNEACT-ND
pins: 1, 2

## SMD Resistor, 10 kOhm, 250 mW, 1206
designator R?, comment 10k  (value not drawn)
SMD Chip Resistor, 10 kOhm, 1%, 250 mW, 1206 [3216 Metric], Thick Film, General Purpose; Manufacturer: Yageo; Manufacturer Part Number: RC1206FR-0710KL; Temperature Coefficient: 100ppm/°C; Power Rating: 250mW; Voltage Rating: 200V; Resistance: 10kR; Supplier 1: Digikey; RoHS: Yes; Category: Chip SMD Resistors; Stock 1: 2825737; Pricing 1: 1=0,1, 10=0,038, 50=0,0244, 100=0,0206, 500=0,01434, 1000=0,01248 (USD); Case/Package: 1206; Case Code (Imperial): 1206; Case Code (Metric): 3216; Size Code: 1206; Min Operating Temperature: -55°C; Max Operating Temperature: 155°C; Tolerance: 1%; Packaging: Tape and Reel; Resistor Type: Thick Film; Termination: SMD/SMT; Series: RC; Resistance Tolerance: 1%; Features: Moisture Resistant; Max Power Dissipation: 250mW; Number of Terminations: 2; Voltage Rating (AC): 200V; Package Quantity: 5000; Length: 3.1mm; Width: 1.6mm; Height: 0.55mm; Reach SVHC Compliant: Unknown; Lead Free: 5697LeadFree; RoHS Compliant: Yes; ComponentLink1URL: https://datasheet.ciiva.com/46445/444357-46445703.pdf?src-supplier=Element14; ComponentLink1Description: https://datasheet.ciiva.com/46445/444357-46445703.pdf?src-supplier=Element14; ComponentLink2URL: https://datasheet.ciiva.com/7857/1692832-7857244.pdf?src-supplier=Element14; ComponentLink2Description: https://datasheet.ciiva.com/7857/1692832-7857244.pdf?src-supplier=Element14; ComponentLink3URL: https://datasheet.ciiva.com/7857/1692832-7857245.pdf?src-supplier=Element14; ComponentLink3Description: https://datasheet.ciiva.com/7857/1692832-7857245.pdf?src-supplier=Element14; Supplier Part Number 1: 311-10.0KFRCT-ND
footprint Yageo 1206 SMD Resistor (RC1206FR-0720KL)
pins: 1, 2

## SMD Resistor, 20k Ohm, 250mW, 1206
designator R?, comment 20kR
20 kOhm, ± 1%, 250 mW, SMD Resistor, 1206 [3216 Metric], Thick Film, General Purpose; Manufacturer: Yageo; Manufacturer Part Number: RC1206FR-0720KL; Voltage Rating (DC): 200V; Supplier 1: Digikey; RoHS: Yes; Category: Chip SMD Resistors; Stock 1: 254185; Pricing 1: 1=0,1, 10=0,038, 50=0,0244, 100=0,0206, 500=0,01434, 1000=0,01248 (USD); Lead Free: 5697LeadFree; ComponentLink1URL: http://www.yageo.com/documents/recent/PYu-RC_Group_51_RoHS_L_9.pdf?src-supplier=Digikey; ComponentLink1Description: http://www.yageo.com/documents/recent/PYu-RC_Group_51_RoHS_L_9.pdf?src-supplier=Digikey; ComponentLink2URL: http://www.yageo.com/documents/recent/PYu-RC_Group_51_RoHS_L_10.pdf?src-supplier=Digikey; ComponentLink2Description: http://www.yageo.com/documents/recent/PYu-RC_Group_51_RoHS_L_10.pdf?src-supplier=Digikey; Supplier Part Number 1: 311-20.0KFRCT-ND
footprint Yageo 1206 SMD Resistor (RC1206FR-0720KL)
pins: 1, 2

## SMD Resistor, 300 Ohm, 250mW, 1206
designator R?, comment 330R
1206 330 Ohm 5% 0.25W(1/4W) ±200ppm/C Pad SMD Automotive T/R; Manufacturer: Stackpole Electronics; Manufacturer Part Number: RMCF1206JT330R; Supplier 1: Digikey; RoHS: Yes; Category: Chip SMD Resistors; Stock 1: 329096; Pricing 1: 1=0,1, 10=0,021, 50=0,0132, 100=0,011, 500=0,00744, 1000=0,00639 (USD); ComponentLink1URL: https://datasheet.ciiva.com/15193/getdatasheetpartid-491989-15193739.pdf?src-supplier=Verical; ComponentLink1Description: https://datasheet.ciiva.com/15193/getdatasheetpartid-491989-15193739.pdf?src-supplier=Verical; Supplier Part Number 1: RMCF1206JT330RCT-ND
pins: 1, 2

## Switch Pushbutton DPDT
designator *
No 3D model :( Switch Pushbutton DPDT On-Mom; Manufacturer: E-Switch; Manufacturer Part Number: TL2233OA; Supplier 1: Digikey; RoHS: No; Category: Pushbutton Switches; Stock 1: 2242; Pricing 1: 1=0,47, 10=0,451, 25=0,4248, 100=0,3686, 250=0,3344 (USD); Supplier Part Number 1: 141-TL2233OACT-ND
footprint TL2233OA
pins: 1, 2, 3, 4, 5, 6
text: PUSH

## Tactile Switch
designator SW?, comment EVQ-Q2U03W
No 3D model SWITCH TACTILE SPST-NO 0.02A 15V; Manufacturer: Panasonic; Contact Current Rating: 20mA; Contact Resistance: 100mΩ; Operating Force: 2.6N; Electromechanical Life: 200000Cycles; Height: 3.3mm; Device Class L3: Tactile Switches; Voltage Rating Dc: 15V; Temperature: -40°C to +85°C; Device Class L1: Electromechanical; Manufacturer Part Number: EVQ-Q2U03W; Mount: Surface Mount; ComponentLink2Description: Datasheet; Automotive: No; Lead Free: Yes; Throw Configuration: SPST-NO; RoHS: TRUE; ComponentLink2URL: https://industrial.panasonic.com/cdbs/www-data/pdf/ATK0000/ATK0000C360.pdf; Package: EVQQ2; Temperature Range High: +85°C; Temperature Range Low: -40°C; Mouser Description: Tactile Switches 2.6NF 6.5x6.0x3.1mm; Digikey Description: SWITCH TACTILE SPST-NO 0.02A 15V; Octopart: https://octopart.com/evq-q2u03w-panasonic-1404553; Category: Switch; Device Class L2: Switches
pins: A, A', B, B'

## Tactile Switch SPST
designator SW?
TL3305A Series SPST 12 V 4.5 x 4.5 mm 260 gf Top Actuated SMT Tactile Switch; Manufacturer: E-Switch; Manufacturer Part Number: TL3305AF260QG; Mechanical Life: 200000Cycles; Illumination Type: Non-Illuminated; Operating Force: 260gf; Switch Travel: 0.2mm; Switch Function: Off-Mom; Actuator Type: Standard; Supplier 1: Digikey; RoHS: No; Category: Tactile Switches; Stock 1: 157478; Pricing 1: 1=0,21, 10=0,205, 25=0,1944, 100=0,176, 250=0,16048, 500=0,14918, 1000=0,12726 (USD); Mount: Surface Mount; Min Operating Temperature: -20°C; Max Operating Temperature: 70°C; Packaging: Cut Tape; Termination: Gull Wing; Throw Configuration: SPST; Series: TL3305; Lead Free: Lead Free; ComponentLink1URL: http://www.farnell.com/datasheets/2554191.pdf?src-supplier=Farnell; ComponentLink1Description: http://www.farnell.com/datasheets/2554191.pdf?src-supplier=Farnell; ComponentLink2URL: http://www.farnell.com/datasheets/2554191.pdf?src-supplier=Newark; ComponentLink2Description: http://www.farnell.com/datasheets/2554191.pdf?src-supplier=Newark; ComponentLink3URL: http://spec_sheets.e-switch.com/specs/P010471.pdf?src-supplier=Mouser; ComponentLink3Description: http://spec_sheets.e-switch.com/specs/P010471.pdf?src-supplier=Mouser; ComponentLink4URL: http://www.farnell.com/datasheets/2554191.pdf?src-supplier=Element14; ComponentLink4Description: http://www.farnell.com/datasheets/2554191.pdf?src-supplier=Element14; ComponentLink5URL: http://spec_sheets.e-switch.com/specs/P010471.pdf?src-supplier=Digikey; ComponentLink5Description: http://spec_sheets.e-switch.com/specs/P010471.pdf?src-supplier=Digikey; ComponentLink6URL: http://spec_sheets.e-switch.com/specs/P010471.pdf?src-supplier=NAC+Semi; ComponentLink6Description: http://spec_sheets.e-switch.com/specs/P010471.pdf?src-supplier=NAC+Semi; Supplier Part Number 1: EG5353DKR-ND
footprint Tactile Switch (SW_TL3305AF260QG)
pins: 1, 2, 3, 4

## Thermistor NTC 10K
designator RT?, comment Thermistor 10K
Thermistor NTC 10K Ohm 10% 2-Pin 1206 Surface Mount Solder Pad 3510K Blister T/R; Manufacturer: TDK EPCOS; Manufacturer Part Number: B57621C5103K062; Resistance: 10kR; Power Rating: 300mW; Supplier 1: Digikey; RoHS: Yes; Category: Thermistors; Stock 1: 7290; Pricing 1: 1=1,17, 10=0,878, 25=0,7024, 100=0,6439, 500=0,5415, 1000=0,48295 (USD); Case/Package: 1206; Number of Pins: 2; Weight: 0.000635oz; Min Operating Temperature: -55°C; Max Operating Temperature: 125°C; Packaging: Tape and Reel; Tolerance: 10%; Package Quantity: 4000; Termination: SMD/SMT; Series: *; Length: 3.2mm; Width: 1.6mm; Height: 1.3mm; Depth: 1.6mm; Radiation Hardening: No; RoHS Compliant: Yes; ComponentLink1URL: https://datasheet.ciiva.com/15097/getdatasheetpartid-382188-15097872.pdf?src-supplier=Verical; ComponentLink1Description: https://datasheet.ciiva.com/15097/getdatasheetpartid-382188-15097872.pdf?src-supplier=Verical; Supplier Part Number 1: 495-B57621C5103K062CT-ND
footprint Yageo 1206 SMD Resistor (RC1206FR-0720KL)
pins: 1, 2
text: -t°

## Title Block
designator *  (value not drawn)  (graphical)
Custom schematic title block; Subtitle: -; Size: -
text: Project:; Subtitle:; Document name:; Size:; Author:; Date:

## Unidirectional TVS protection Diode
designator D?, comment TVS Protection
Unidirectional TVS protection. SMAJ Series 10 V 400 W SMT Uni-Directional Transient Voltage Suppressor - SMA; Manufacturer: Littelfuse; Manufacturer Part Number: SMAJ10A; Supplier 1: Digikey; RoHS: Yes; Category: TVS Diodes; Stock 1: 44201; Pricing 1: 1=0,4, 10=0,287, 100=0,1449, 500=0,12844, 1000=0,09996, 2000=0,08947 (USD); ComponentLink1URL: https://datasheet.ciiva.com/330/littelfuse-tvs-diode-smaj-datasheet-pdf-330790.pdf?src-supplier=Digikey; ComponentLink1Description: https://datasheet.ciiva.com/330/littelfuse-tvs-diode-smaj-datasheet-pdf-330790.pdf?src-supplier=Digikey; ComponentLink2URL: https://datasheet.ciiva.com/330/littelfuse-tvs-diode-smaj-datasheet-pdf-330791.pdf?src-supplier=Digikey; ComponentLink2Description: https://datasheet.ciiva.com/330/littelfuse-tvs-diode-smaj-datasheet-pdf-330791.pdf?src-supplier=Digikey; ComponentLink3URL: https://datasheet.ciiva.com/330/littelfuse-tvs-diode-smaj-datasheet-pdf-330792.pdf?src-supplier=Digikey; ComponentLink3Description: https://datasheet.ciiva.com/330/littelfuse-tvs-diode-smaj-datasheet-pdf-330792.pdf?src-supplier=Digikey; ComponentLink4URL: https://datasheet.ciiva.com/8062/littelfuse-tvs-diode-smaj-8062262.pdf?src-supplier=Element14; ComponentLink4Description: https://datasheet.ciiva.com/8062/littelfuse-tvs-diode-smaj-8062262.pdf?src-supplier=Element14; Supplier Part Number 1: SMAJ10ALFCT-ND
footprint Unidirectional TVS protection diode (DIOM4325X250N)
pins: 1, 2

## USB TYPE-C
designator J?, comment USB-C Connector
USB-C (USB TYPE-C) Receptacle Connector 24 (6+18 Dummy) Position Surface Mount, Right Angle; Through Hole; Manufacturer: Global Connector Technology; Manufacturer Part Number: USB4125-GF-A; Gender: 4472Gender; Supplier 1: Digikey; RoHS: No; Category: Connectors; Stock 1: 12073; Pricing 1: 1=0,67, 10=0,586, 25=0,5356, 50=0,5042, 100=0,4832, 250=0,44116, 500=0,42016 (USD); Number of Pins: 6NUMBER; Orientation: 5496OrientationType; ComponentLink1URL: https://datasheet.octopart.com/USB4125-GF-A-Global-Connector-Technology-datasheet-148864632.pdf?src-supplier=Future+Electronics; ComponentLink1Description: https://datasheet.octopart.com/USB4125-GF-A-Global-Connector-Technology-datasheet-148864632.pdf?src-supplier=Future+Electronics; Supplier Part Number 1: 2073-USB4125-GF-ACT-ND
pins: A5 CC1, A9 VBUS, A12 GND, B5 CC1, B9 VBUS, B12 GND, SHELL